# Altium schematic symbol library JTAG10_Header.SchLib: 1 symbol
Pins are listed as number, name and electrical type; pins without a type are passive.

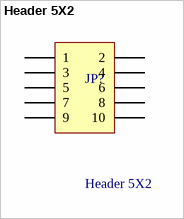
[diagram p0: symbol Header 5X2]

## Header 5X2
designator JP?
Header, 5-Pin, Dual row; LatestRevisionDate: 17-Jul-2002; LatestRevisionNote: Re-released for DXP Platform.; Publisher: Altium Limited
signal-integrity model Connector
footprint 3221-10-0100-00
pins: 1, 2, 3, 4, 5, 6, 7, 8, 9, 10